# Altium footprint library Hello.PcbLib: 234 footprints (part 11 of 15)
Each footprint in its own frame and in the unit in brackets; x right, y up, seen from the top. Pads: shape width x height; smd on the part's side, far side on the other; paste and mask are expansions set on the pad; w line width, h text height; cw(c..) or ccw(c..) is an arc to the next point about the centre after c.
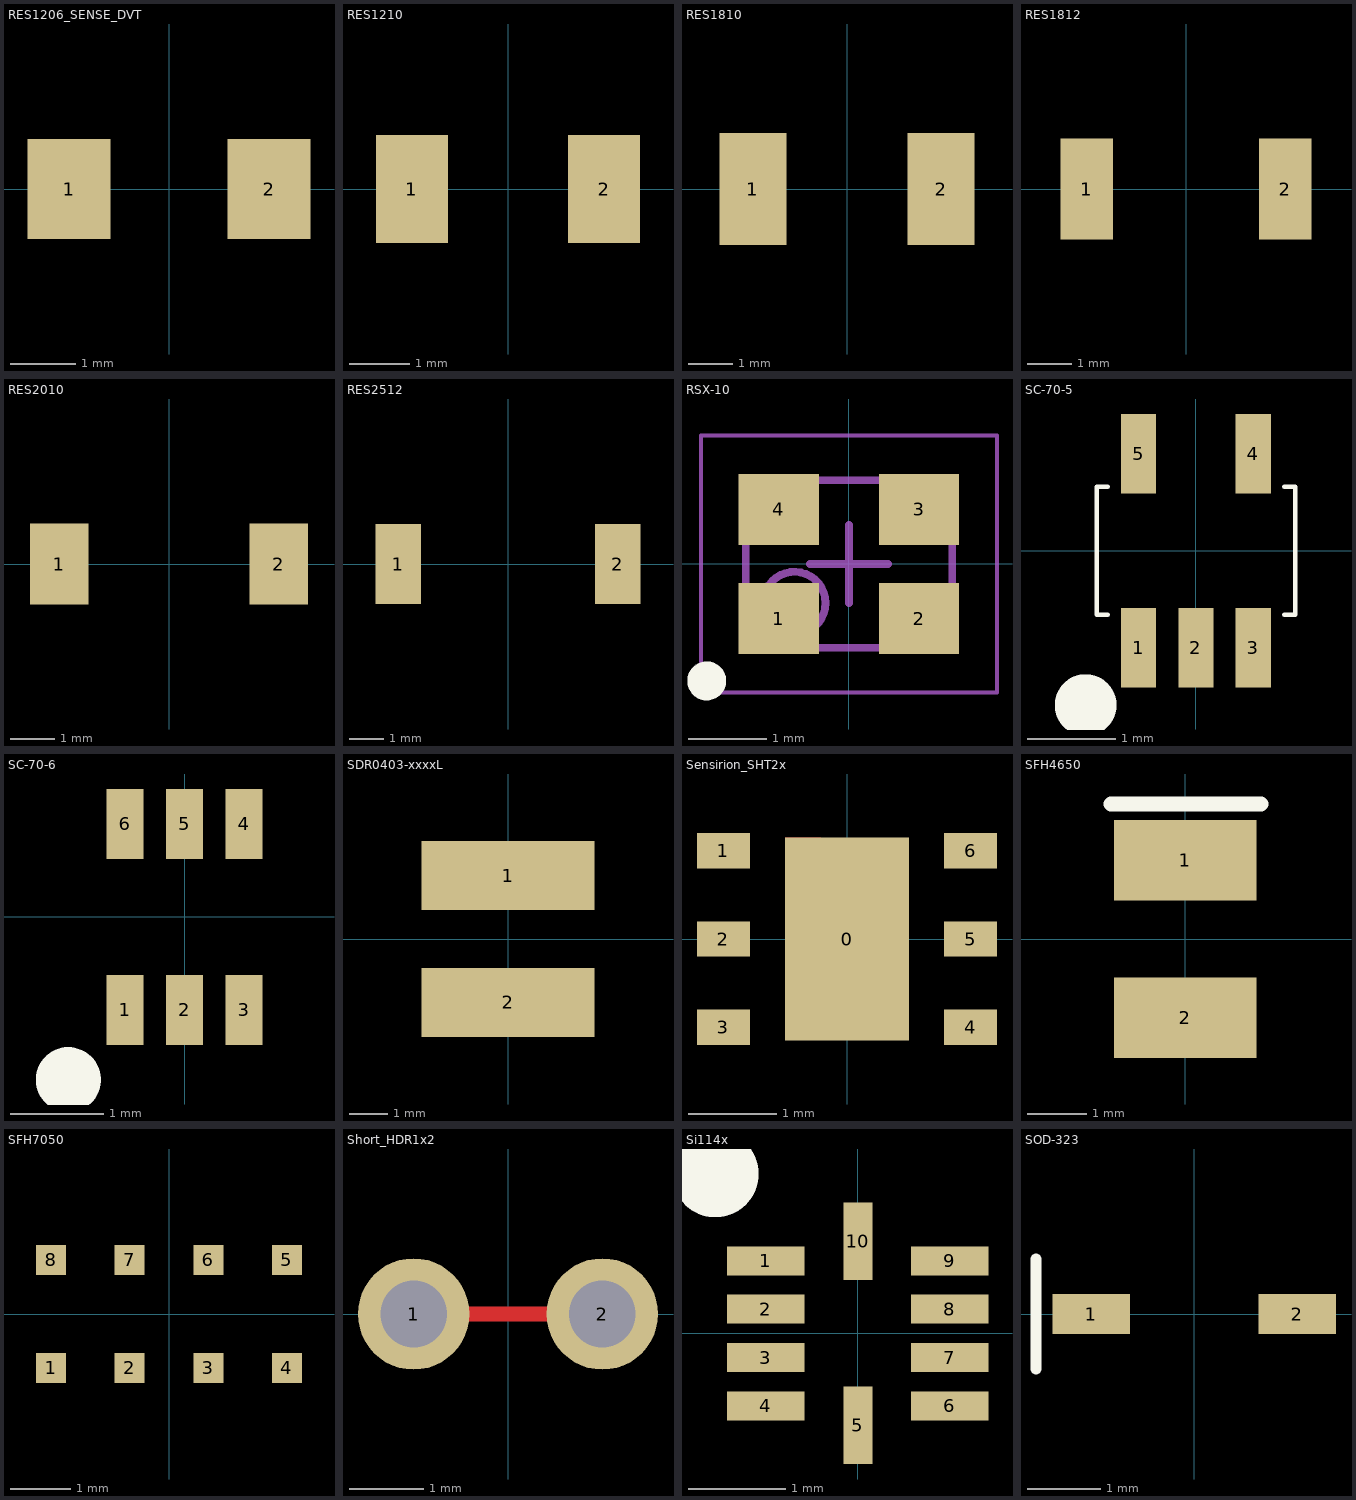
[diagram p10: the footprints below, top view; thin cyan lines are the x and y axes]

## RES1206_SENSE_DVT [mil] "Chip resistor 1206"
height 19.68
pads (2):
  rect 50x60 smd: 1(-60,0) 2(60,0)
3D body: height 19.68, standoff 0, extent -76.22,-23.6 76.22,23.6

## RES1210 [mm] "Chip resistor 1210 high density"
height 0.5
pads (2):
  rect 1.2x1.8 smd: 1(-1.6,0) 2(1.6,0)
3D body: height 0.5, standoff 0, extent -1.967,-0.897 1.955,0.897

## RES1810 [mm] "Chip resistor 1810 low density"
height 2.5
pads (2):
  rect 1.5x2.5 smd: 1(-2.1,0) 2(2.1,0)
3D body: height 2.5, standoff 0, extent -2.25,-1.25 2.25,1.25

## RES1812 [mm] "Chip resistor 1812 high density"
height 0.5
pads (2):
  rect 1.2x2.3 smd: 1(-2.25,0) 2(2.25,0)
3D body: height 0.5, standoff 0, extent -2.622,-1.147 2.612,1.153

## RES2010 [mm] "Chip resistor 2010 high density"
height 0.5
pads (2):
  rect 1.3x1.8 smd: 1(-2.45,0) 2(2.45,0)
3D body: height 0.5, standoff 0, extent -2.862,-0.894 2.829,0.893

## RES2512 [mm] "Chip resistor 2512 high density"
height 0.5
pads (2):
  rect 1.3x2.3 smd: 1(-3.15,0) 2(3.15,0)
3D body: height 0.5, standoff 0, extent -3.558,-1.149 3.541,1.147

## RSX-10 [mm] "Rakon RSX-10 2.5mm x 2.0mm 4pin Xtal"
height 0.55
pads (4):
  rect 1.03x0.91 smd: 1(-0.9,-0.7) 2(0.9,-0.7) 3(0.9,0.7) 4(-0.9,0.7)
Top Overlay:
  circle w0.25: c-1.825,-1.5 r0.125
Mechanical 13:
  circle w0.1: c-0.7,-0.5 r0.4
  lines w0.1: -1.325,-1.075 1.325,-1.075 1.325,1.075 -1.325,1.075 -1.325,-1.075
Mechanical 15:
  lines w0.05: -1.9,-1.65 1.9,-1.65 1.9,1.65 -1.9,1.65 -1.9,-1.65
  lines w0.1: -0.5,0 0.5,0 ; 0,-0.5 0,0.5
3D body: height 0.55, standoff 0.1, extent -1.325,-1.075 1.325,1.075

## SC-70-5 [mm] "SC-70 with 5 leads"
height 1
pads (5):
  rect 0.4x0.9 smd paste-0.05: 1(-0.65,-1.1) 2(0,-1.1) 3(0.65,-1.1) 4(0.65,1.1) 5(-0.65,1.1)
Top Overlay:
  circle w0.5: c-1.25,-1.75 r0.1
  lines w0.05: -1,-0.725 -1.125,-0.725 -1.125,0.725 -1,0.725 ; 1,-0.725 1.125,-0.725 1.125,0.725 1,0.725
3D body: height 1.1, standoff 0, extent -1.1,-0.7 1.1,0.7

## SC-70-6 [mm] "SC-70 with 6 leads"
height 1
pads (6):
  rect 0.4x0.75 smd paste-0.05: 1(-0.64,-1) 2(0,-1) 3(0.64,-1) 4(0.64,1) 5(0,1) 6(-0.64,1)
Top Overlay:
  circle w0.5: c-1.25,-1.75 r0.1
3D body: height 1.1, standoff 0, extent -1.1,-1.2 1.1,1.2

## SDR0403-xxxxL [mm] "Bourns SMD power inductor"
height 3.2
pads (2):
  rect 4.5x1.8 smd: 1(0,1.65) 2(0,-1.65)
3D body: height 3.2, standoff 0, extent -2.232,-2.245 2.25,2.246

## Sensirion_SHT2x [mm] "Sensirion's T/H sensor SHT2x"
height 1.1
pads (7):
  rect 1.4x2.3 smd: 0(0,0)
  rect 0.6x0.4 smd: 1(-1.4,1) 2(-1.4,0) 3(-1.4,-1) 4(1.4,-1) 5(1.4,0) 6(1.4,1)
Top Layer:
  pour cut-out: -0.3,1.15 -0.7,1.15 -0.7,0.75
3D body: height 1.1, standoff 0, extent -1.5,-1.2 1.5,1.2

## SFH4650 [mm] "OSRAM IR LED"
height 1.7
pads (2):
  rect 2.4x1.35 smd: 1(0,1.325) 2(0,-1.325)
Top Overlay:
  lines w0.25: -1.25,2.275 1.275,2.275
3D body: height 1.7, standoff 0, extent -1.175,-1.625 1.175,1.65

## SFH7050 [mm] "Osram BioMon custom footprint, 4.8x2.6 mm"
height 1
pads (8):
  rect 0.5x0.5 smd paste-0.1: 1(-1.965,-0.9) 2(-0.655,-0.9) 3(0.655,-0.9) 4(1.965,-0.9) 5(1.965,0.9) 6(0.655,0.9) 7(-0.655,0.9) 8(-1.965,0.9)
Top Solder:
  region: -2.5,1.4 -2.5,-1.4 2.5,-1.4 2.5,1.4
3D body: height 1, standoff 0, extent -2.55,-1.45 2.55,1.45

## Short_HDR1x2 [mm] "Shorted 1x2 header with cuttable trace"
pads (2):
  round 1.5 hole 0.9: 1(-1.27,0) 2(1.27,0)
Top Layer:
  lines w0.2: -1.27,0 1.27,0

## Si114x [mm] "Silicon Labs Si1145/46/47"
height 0.65
pads (10):
  rect 0.8x0.3 smd: 1(-0.95,0.75) 2(-0.95,0.25) 3(-0.95,-0.25) 4(-0.95,-0.75) 6(0.95,-0.75) 7(0.95,-0.25) 8(0.95,0.25) 9(0.95,0.75)
  rect 0.3x0.8 smd: 5(0,-0.95) 10(0,0.95)
Top Overlay:
  circle w0.7: c-1.475,1.65 r0.1
3D body: height 0.65, standoff 0, extent -1,-1 1,1

## SOD-323 [mm] "SOD-323 (SC-76) diode package"
height 0.9
pads (2):
  rect 1.05x0.55 smd: 1(-1.4,0) 2(1.4,0)
Top Overlay:
  lines w0.15: -2.15,-0.75 -2.15,0.75
3D body: height 0.95, standoff -0.04, extent -1.225,-0.625 1.275,0.625